# Altium footprint library SMC.PcbLib: 1 footprints
Each footprint in its own frame and in the unit in brackets; x right, y up, seen from the top. Pads: shape width x height; smd on the part's side, far side on the other; paste and mask are expansions set on the pad; w line width, h text height; cw(c..) or ccw(c..) is an arc to the next point about the centre after c.
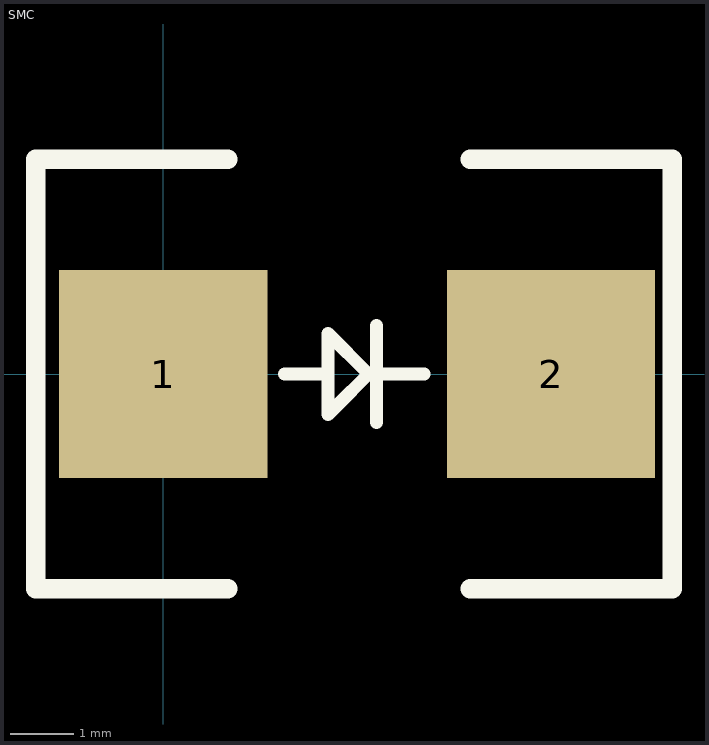
[diagram p0: the footprint, top view; thin cyan lines are the x and y axes]

## SMC [mil]
pads (2):
  rect 129x129 smd: 1(0,0) 2(240,0)
TopOverlay:
  lines w7.8: 132,0 161.42,0
  lines w8: 75,0 102,0 ; 132,-30 132,30 ; 102,0 102,-25 107,-20 127,0 102,25 102,0
  lines w12: 40,-133 -79,-133 -79,133 40,133 ; 315,-132.99 315,132.99
  lines w12.01: 190,-132.99 315,-132.99 ; 190,132.99 315,132.99
Mechanical4:
  text ".105" at 240,0 h1
3D body: height 91.57, standoff 0.82, extent -36.5,-116.28 276.5,116